# Altium integrated library con-ml.IntLib: 36 symbols
Pins are listed as number, name and electrical type; pins without a type are passive.

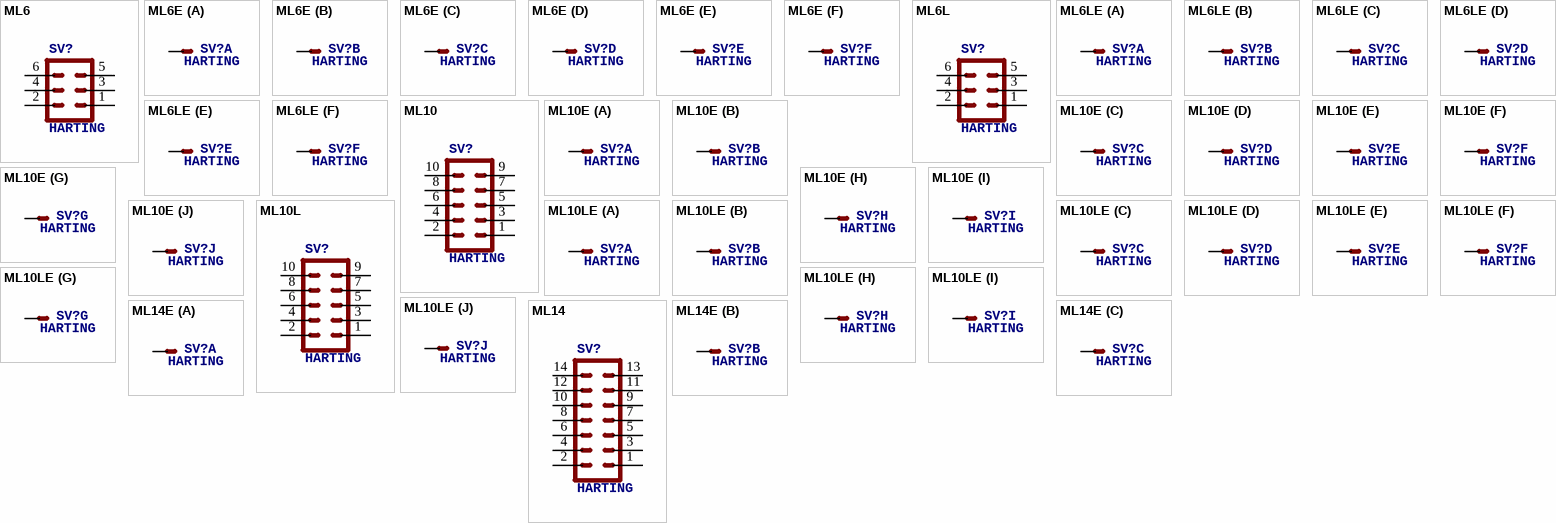
[diagram p0: symbols ML6 to ML14E]

## ML6
designator SV?, comment HARTING
OC_FARNELL: unknown; OC_NEWARK: unknown
footprint ML6
pins: 1, 2, 3, 4, 5, 6

## ML6E
designator SV?, comment HARTING
OC_FARNELL: unknown; OC_NEWARK: unknown
footprint ML6
part A pins: 1 S
part B pins: 2 S
part C pins: 3 S
part D pins: 4 S
part E pins: 5 S
part F pins: 6 S

## ML6L
designator SV?, comment HARTING
OC_FARNELL: unknown; OC_NEWARK: unknown
footprint ML6L
pins: 1, 2, 3, 4, 5, 6

## ML6LE
designator SV?, comment HARTING
OC_FARNELL: unknown; OC_NEWARK: unknown
footprint ML6L
part A pins: 1 S
part B pins: 2 S
part C pins: 3 S
part D pins: 4 S
part E pins: 5 S
part F pins: 6 S

## ML10
designator SV?, comment HARTING
OC_FARNELL: unknown; OC_NEWARK: unknown
footprint ML10
pins: 1, 2, 3, 4, 5, 6, 7, 8, 9, 10

## ML10E
designator SV?, comment HARTING
OC_FARNELL: unknown; OC_NEWARK: unknown
footprint ML10
part A pins: 1 S
part B pins: 2 S
part C pins: 3 S
part D pins: 4 S
part E pins: 5 S
part F pins: 6 S
part G pins: 7 S
part H pins: 8 S
part I pins: 9 S
part J pins: 10 S

## ML10L
designator SV?, comment HARTING
OC_FARNELL: unknown; OC_NEWARK: unknown
footprint ML10L
pins: 1, 2, 3, 4, 5, 6, 7, 8, 9, 10

## ML10LE
designator SV?, comment HARTING
OC_FARNELL: unknown; OC_NEWARK: unknown
footprint ML10L
part A pins: 1 S
part B pins: 2 S
part C pins: 3 S
part D pins: 4 S
part E pins: 5 S
part F pins: 6 S
part G pins: 7 S
part H pins: 8 S
part I pins: 9 S
part J pins: 10 S

## ML14
designator SV?, comment HARTING
OC_FARNELL: unknown; OC_NEWARK: unknown
footprint ML14
pins: 1, 2, 3, 4, 5, 6, 7, 8, 9, 10, 11, 12, 13, 14

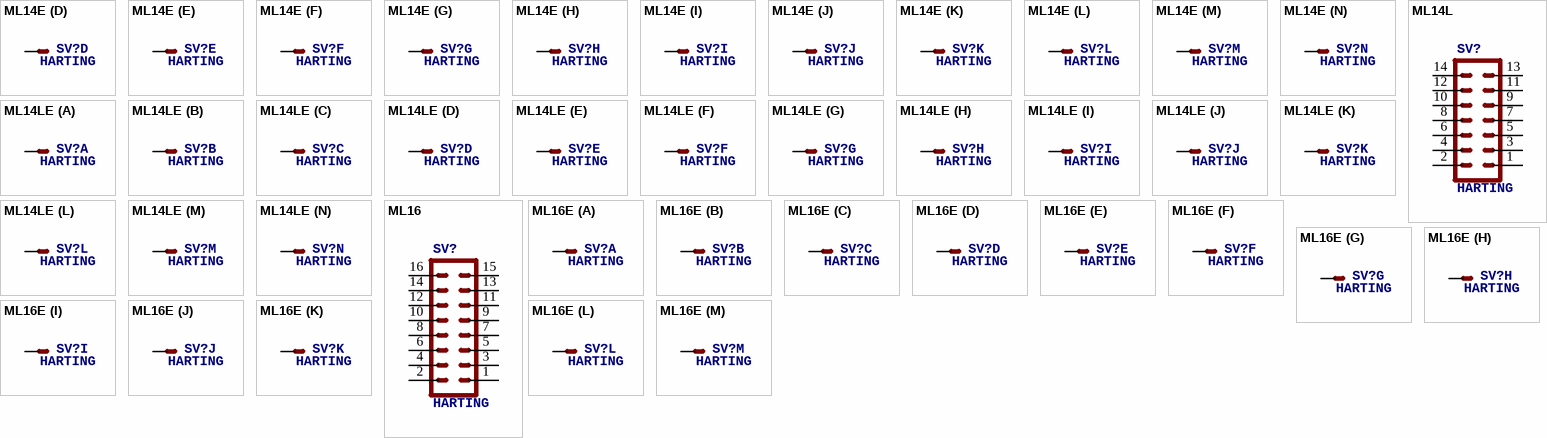
[diagram p1: symbols ML14E to ML16E]

## ML14E
designator SV?, comment HARTING
OC_FARNELL: unknown; OC_NEWARK: unknown
footprint ML14
part A pins: 1 S
part B pins: 2 S
part C pins: 3 S
part D pins: 4 S
part E pins: 5 S
part F pins: 6 S
part G pins: 7 S
part H pins: 8 S
part I pins: 9 S
part J pins: 10 S
part K pins: 11 S
part L pins: 12 S
part M pins: 13 S
part N pins: 14 S

## ML14L
designator SV?, comment HARTING
OC_FARNELL: unknown; OC_NEWARK: unknown
footprint ML14L
pins: 1, 2, 3, 4, 5, 6, 7, 8, 9, 10, 11, 12, 13, 14

## ML14LE
designator SV?, comment HARTING
OC_FARNELL: unknown; OC_NEWARK: unknown
footprint ML14L
part A pins: 1 S
part B pins: 2 S
part C pins: 3 S
part D pins: 4 S
part E pins: 5 S
part F pins: 6 S
part G pins: 7 S
part H pins: 8 S
part I pins: 9 S
part J pins: 10 S
part K pins: 11 S
part L pins: 12 S
part M pins: 13 S
part N pins: 14 S

## ML16
designator SV?, comment HARTING
OC_FARNELL: unknown; OC_NEWARK: unknown
footprint ML16
pins: 1, 2, 3, 4, 5, 6, 7, 8, 9, 10, 11, 12, 13, 14, 15, 16

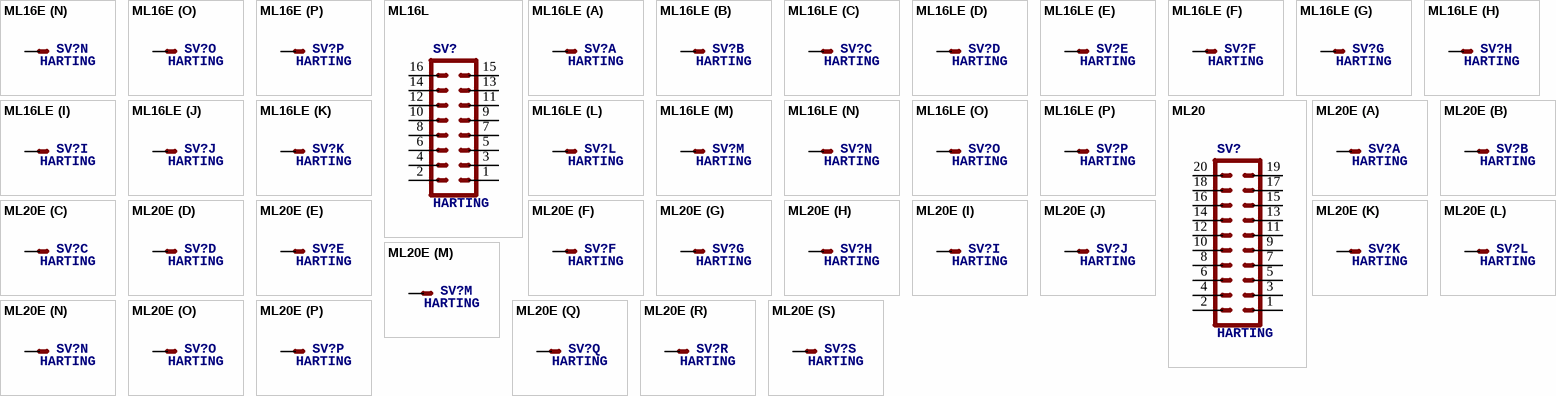
[diagram p2: symbols ML16E to ML20E]

## ML16E
designator SV?, comment HARTING
OC_FARNELL: unknown; OC_NEWARK: unknown
footprint ML16
part A pins: 1 S
part B pins: 2 S
part C pins: 3 S
part D pins: 4 S
part E pins: 5 S
part F pins: 6 S
part G pins: 7 S
part H pins: 8 S
part I pins: 9 S
part J pins: 10 S
part K pins: 11 S
part L pins: 12 S
part M pins: 13 S
part N pins: 14 S
part O pins: 15 S
part P pins: 16 S

## ML16L
designator SV?, comment HARTING
OC_FARNELL: unknown; OC_NEWARK: unknown
footprint ML16L
pins: 1, 2, 3, 4, 5, 6, 7, 8, 9, 10, 11, 12, 13, 14, 15, 16

## ML16LE
designator SV?, comment HARTING
OC_FARNELL: unknown; OC_NEWARK: unknown
footprint ML16L
part A pins: 1 S
part B pins: 2 S
part C pins: 3 S
part D pins: 4 S
part E pins: 5 S
part F pins: 6 S
part G pins: 7 S
part H pins: 8 S
part I pins: 9 S
part J pins: 10 S
part K pins: 11 S
part L pins: 12 S
part M pins: 13 S
part N pins: 14 S
part O pins: 15 S
part P pins: 16 S

## ML20
designator SV?, comment HARTING
OC_FARNELL: unknown; OC_NEWARK: unknown
footprint ML20
pins: 1, 2, 3, 4, 5, 6, 7, 8, 9, 10, 11, 12, 13, 14, 15, 16, 17, 18, 19, 20

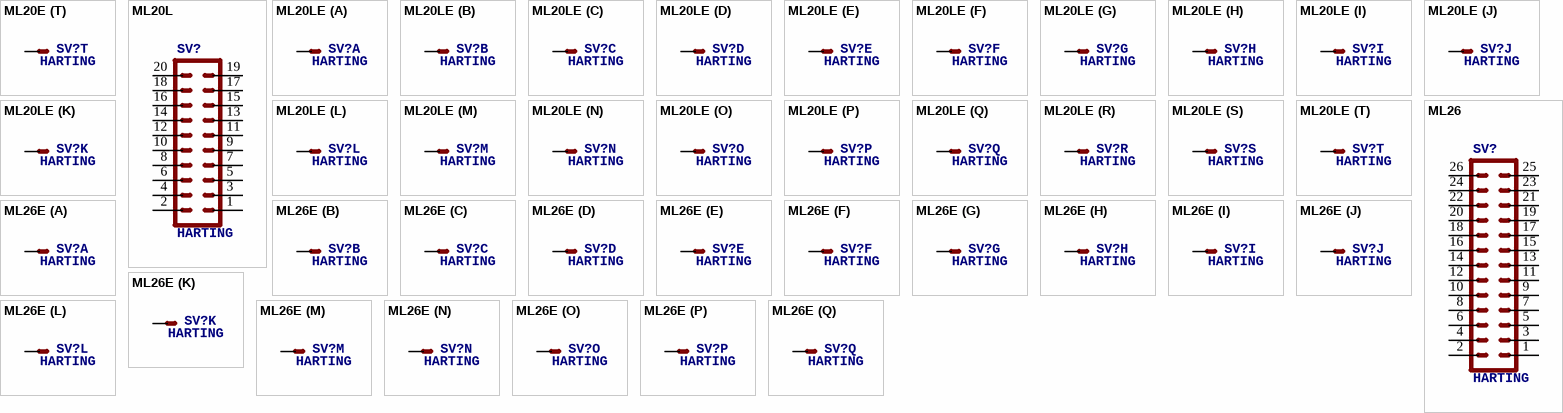
[diagram p3: symbols ML20E to ML26E]

## ML20E
designator SV?, comment HARTING
OC_FARNELL: unknown; OC_NEWARK: unknown
footprint ML20
part A pins: 1 S
part B pins: 2 S
part C pins: 3 S
part D pins: 4 S
part E pins: 5 S
part F pins: 6 S
part G pins: 7 S
part H pins: 8 S
part I pins: 9 S
part J pins: 10 S
part K pins: 11 S
part L pins: 12 S
part M pins: 13 S
part N pins: 14 S
part O pins: 15 S
part P pins: 16 S
part Q pins: 17 S
part R pins: 18 S
part S pins: 19 S
part T pins: 20 S

## ML20L
designator SV?, comment HARTING
OC_FARNELL: unknown; OC_NEWARK: unknown
footprint ML20L
pins: 1, 2, 3, 4, 5, 6, 7, 8, 9, 10, 11, 12, 13, 14, 15, 16, 17, 18, 19, 20

## ML20LE
designator SV?, comment HARTING
OC_FARNELL: unknown; OC_NEWARK: unknown
footprint ML20L
part A pins: 1 S
part B pins: 2 S
part C pins: 3 S
part D pins: 4 S
part E pins: 5 S
part F pins: 6 S
part G pins: 7 S
part H pins: 8 S
part I pins: 9 S
part J pins: 10 S
part K pins: 11 S
part L pins: 12 S
part M pins: 13 S
part N pins: 14 S
part O pins: 15 S
part P pins: 16 S
part Q pins: 17 S
part R pins: 18 S
part S pins: 19 S
part T pins: 20 S

## ML26
designator SV?, comment HARTING
OC_FARNELL: unknown; OC_NEWARK: unknown
footprint ML26
pins: 1, 2, 3, 4, 5, 6, 7, 8, 9, 10, 11, 12, 13, 14, 15, 16, 17, 18, 19, 20, 21, 22, 23, 24, 25, 26

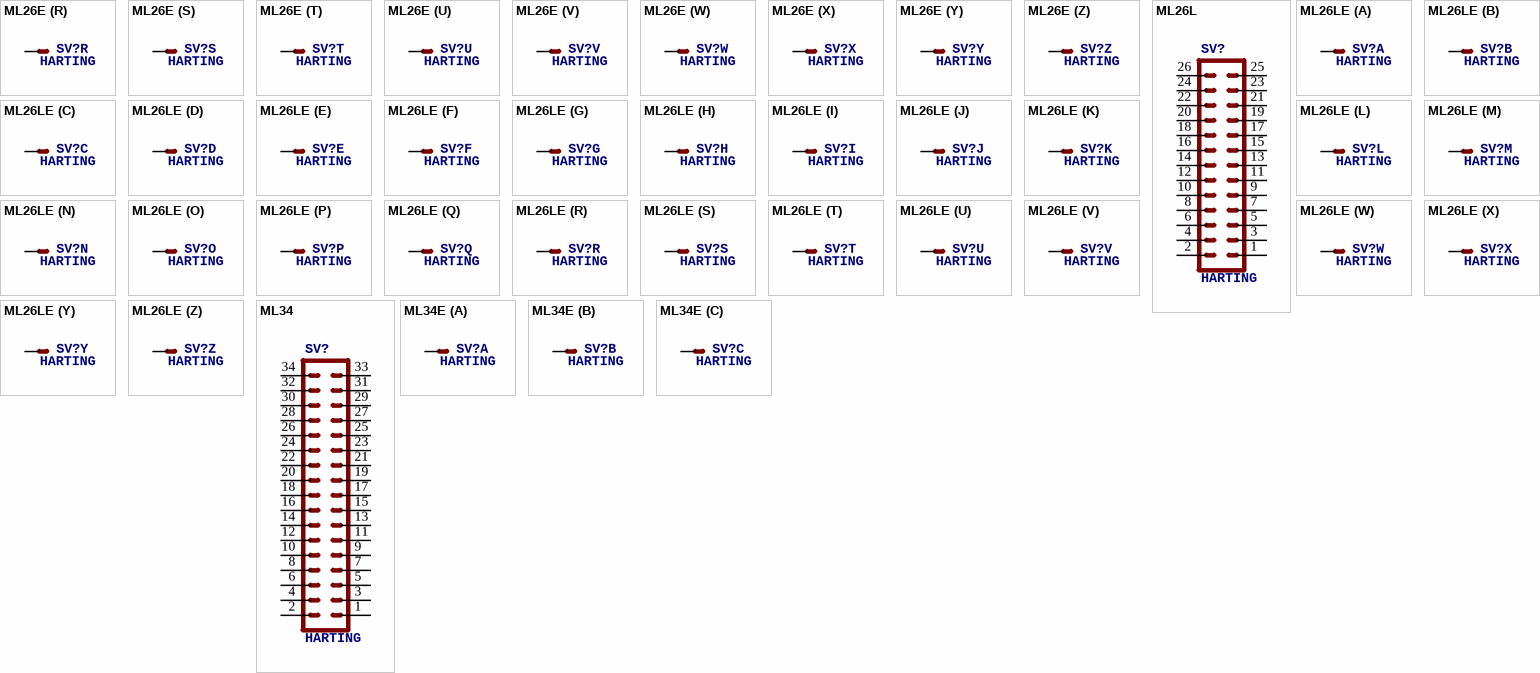
[diagram p4: symbols ML26E to ML34E]

## ML26E
designator SV?, comment HARTING
OC_FARNELL: unknown; OC_NEWARK: unknown
footprint ML26
part A pins: 1 S
part B pins: 2 S
part C pins: 3 S
part D pins: 4 S
part E pins: 5 S
part F pins: 6 S
part G pins: 7 S
part H pins: 8 S
part I pins: 9 S
part J pins: 10 S
part K pins: 11 S
part L pins: 12 S
part M pins: 13 S
part N pins: 14 S
part O pins: 15 S
part P pins: 16 S
part Q pins: 17 S
part R pins: 18 S
part S pins: 19 S
part T pins: 20 S
part U pins: 21 S
part V pins: 22 S
part W pins: 23 S
part X pins: 24 S
part Y pins: 25 S
part Z pins: 26 S

## ML26L
designator SV?, comment HARTING
OC_FARNELL: unknown; OC_NEWARK: unknown
footprint ML26L
pins: 1, 2, 3, 4, 5, 6, 7, 8, 9, 10, 11, 12, 13, 14, 15, 16, 17, 18, 19, 20, 21, 22, 23, 24, 25, 26

## ML26LE
designator SV?, comment HARTING
OC_FARNELL: unknown; OC_NEWARK: unknown
footprint ML26L
part A pins: 1 S
part B pins: 2 S
part C pins: 3 S
part D pins: 4 S
part E pins: 5 S
part F pins: 6 S
part G pins: 7 S
part H pins: 8 S
part I pins: 9 S
part J pins: 10 S
part K pins: 11 S
part L pins: 12 S
part M pins: 13 S
part N pins: 14 S
part O pins: 15 S
part P pins: 16 S
part Q pins: 17 S
part R pins: 18 S
part S pins: 19 S
part T pins: 20 S
part U pins: 21 S
part V pins: 22 S
part W pins: 23 S
part X pins: 24 S
part Y pins: 25 S
part Z pins: 26 S

## ML34
designator SV?, comment HARTING
OC_FARNELL: unknown; OC_NEWARK: unknown
footprint ML34
pins: 1, 2, 3, 4, 5, 6, 7, 8, 9, 10, 11, 12, 13, 14, 15, 16, 17, 18, 19, 20, 21, 22, 23, 24, 25, 26, 27, 28, 29, 30, 31, 32, 33, 34

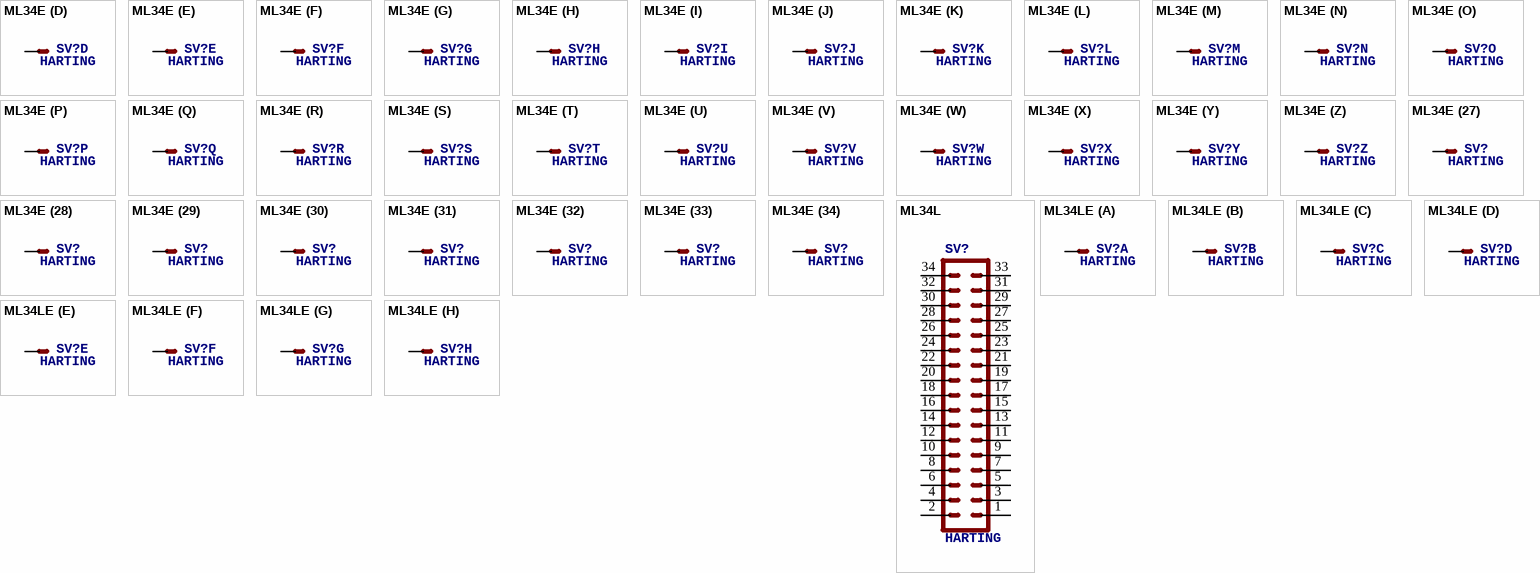
[diagram p5: symbols ML34E to ML34LE]

## ML34E
designator SV?, comment HARTING
OC_FARNELL: unknown; OC_NEWARK: unknown
footprint ML34
part A pins: 1 S
part B pins: 2 S
part C pins: 3 S
part D pins: 4 S
part E pins: 5 S
part F pins: 6 S
part G pins: 7 S
part H pins: 8 S
part I pins: 9 S
part J pins: 10 S
part K pins: 11 S
part L pins: 12 S
part M pins: 13 S
part N pins: 14 S
part O pins: 15 S
part P pins: 16 S
part Q pins: 17 S
part R pins: 18 S
part S pins: 19 S
part T pins: 20 S
part U pins: 21 S
part V pins: 22 S
part W pins: 23 S
part X pins: 24 S
part Y pins: 25 S
part Z pins: 26 S
part 27 pins: 27 S
part 28 pins: 28 S
part 29 pins: 29 S
part 30 pins: 30 S
part 31 pins: 31 S
part 32 pins: 32 S
part 33 pins: 33 S
part 34 pins: 34 S

## ML34L
designator SV?, comment HARTING
OC_FARNELL: unknown; OC_NEWARK: unknown
footprint ML34L
pins: 1, 2, 3, 4, 5, 6, 7, 8, 9, 10, 11, 12, 13, 14, 15, 16, 17, 18, 19, 20, 21, 22, 23, 24, 25, 26, 27, 28, 29, 30, 31, 32, 33, 34

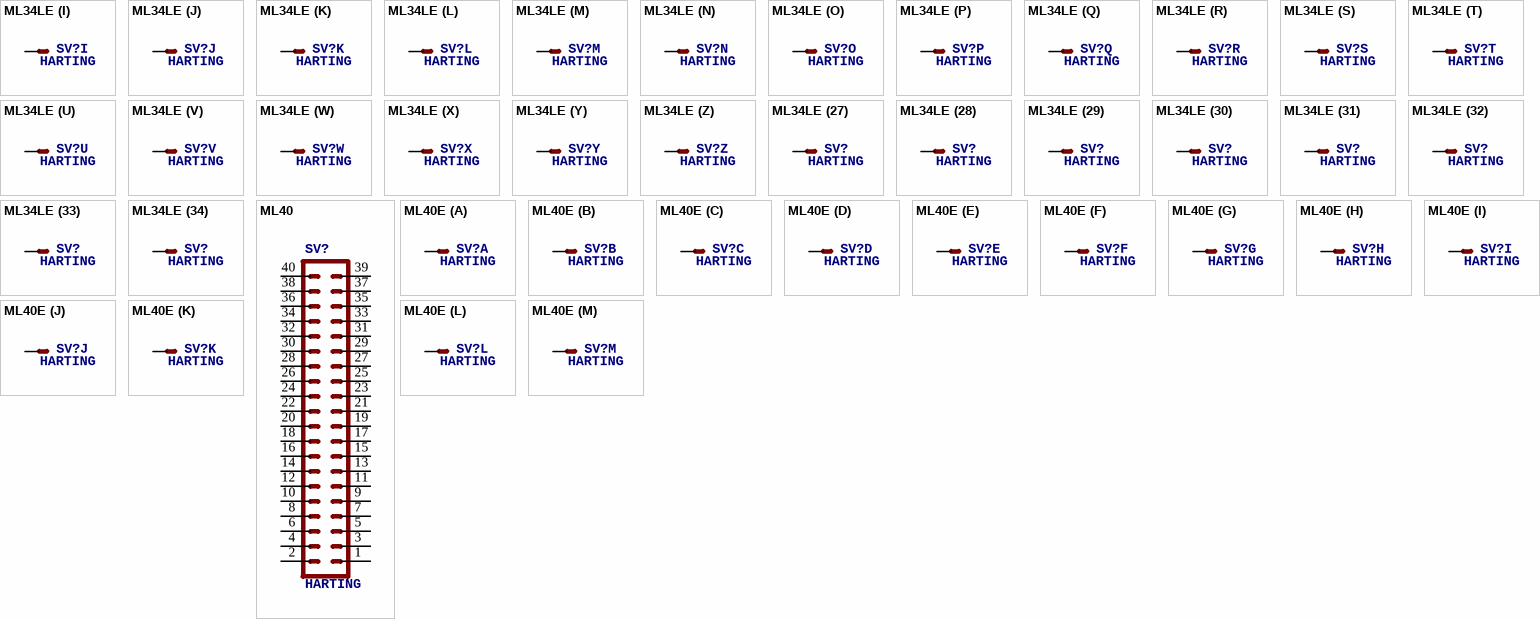
[diagram p6: symbols ML34LE to ML40E]

## ML34LE
designator SV?, comment HARTING
OC_FARNELL: unknown; OC_NEWARK: unknown
footprint ML34L
part A pins: 1 S
part B pins: 2 S
part C pins: 3 S
part D pins: 4 S
part E pins: 5 S
part F pins: 6 S
part G pins: 7 S
part H pins: 8 S
part I pins: 9 S
part J pins: 10 S
part K pins: 11 S
part L pins: 12 S
part M pins: 13 S
part N pins: 14 S
part O pins: 15 S
part P pins: 16 S
part Q pins: 17 S
part R pins: 18 S
part S pins: 19 S
part T pins: 20 S
part U pins: 21 S
part V pins: 22 S
part W pins: 23 S
part X pins: 24 S
part Y pins: 25 S
part Z pins: 26 S
part 27 pins: 27 S
part 28 pins: 28 S
part 29 pins: 29 S
part 30 pins: 30 S
part 31 pins: 31 S
part 32 pins: 32 S
part 33 pins: 33 S
part 34 pins: 34 S

## ML40
designator SV?, comment HARTING
OC_FARNELL: unknown; OC_NEWARK: unknown
footprint ML40
pins: 1, 2, 3, 4, 5, 6, 7, 8, 9, 10, 11, 12, 13, 14, 15, 16, 17, 18, 19, 20, 21, 22, 23, 24, 25, 26, 27, 28, 29, 30, 31, 32, 33, 34, 35, 36, 37, 38, 39, 40

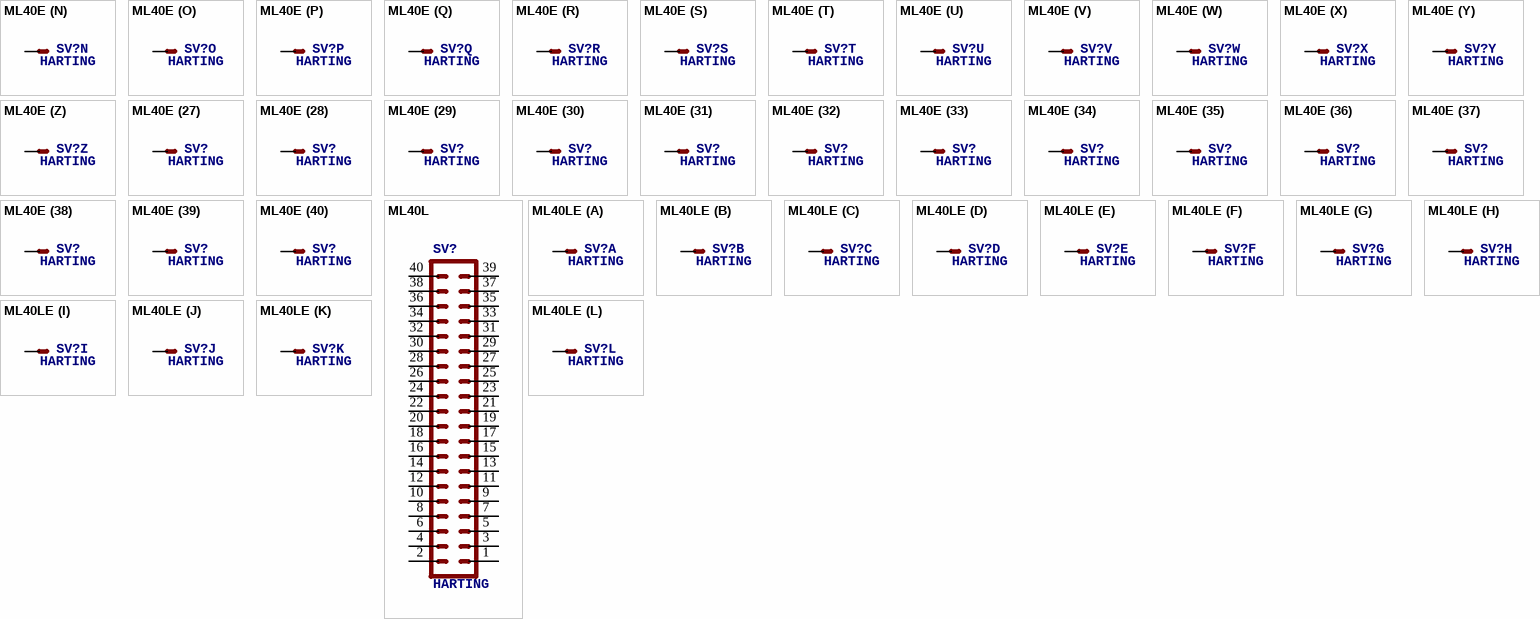
[diagram p7: symbols ML40E to ML40LE]

## ML40E
designator SV?, comment HARTING
OC_FARNELL: unknown; OC_NEWARK: unknown
footprint ML40
part A pins: 1 S
part B pins: 2 S
part C pins: 3 S
part D pins: 4 S
part E pins: 5 S
part F pins: 6 S
part G pins: 7 S
part H pins: 8 S
part I pins: 9 S
part J pins: 10 S
part K pins: 11 S
part L pins: 12 S
part M pins: 13 S
part N pins: 14 S
part O pins: 15 S
part P pins: 16 S
part Q pins: 17 S
part R pins: 18 S
part S pins: 19 S
part T pins: 20 S
part U pins: 21 S
part V pins: 22 S
part W pins: 23 S
part X pins: 24 S
part Y pins: 25 S
part Z pins: 26 S
part 27 pins: 27 S
part 28 pins: 28 S
part 29 pins: 29 S
part 30 pins: 30 S
part 31 pins: 31 S
part 32 pins: 32 S
part 33 pins: 33 S
part 34 pins: 34 S
part 35 pins: 35 S
part 36 pins: 36 S
part 37 pins: 37 S
part 38 pins: 38 S
part 39 pins: 39 S
part 40 pins: 40 S

## ML40L
designator SV?, comment HARTING
OC_FARNELL: unknown; OC_NEWARK: unknown
footprint ML40L
pins: 1, 2, 3, 4, 5, 6, 7, 8, 9, 10, 11, 12, 13, 14, 15, 16, 17, 18, 19, 20, 21, 22, 23, 24, 25, 26, 27, 28, 29, 30, 31, 32, 33, 34, 35, 36, 37, 38, 39, 40

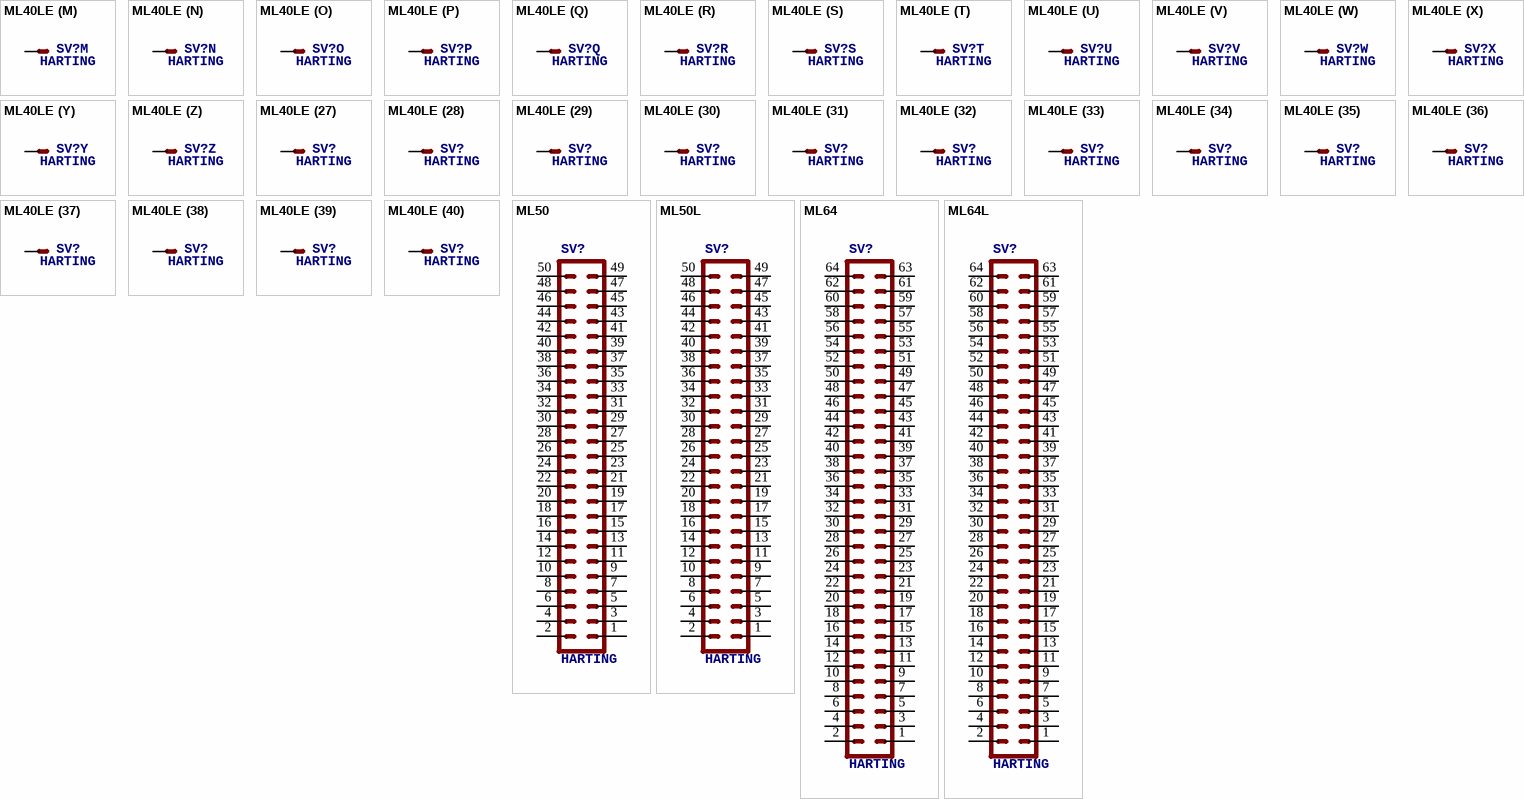
[diagram p8: symbols ML40LE to ML64L]

## ML40LE
designator SV?, comment HARTING
OC_FARNELL: unknown; OC_NEWARK: unknown
footprint ML40L
part A pins: 1 S
part B pins: 2 S
part C pins: 3 S
part D pins: 4 S
part E pins: 5 S
part F pins: 6 S
part G pins: 7 S
part H pins: 8 S
part I pins: 9 S
part J pins: 10 S
part K pins: 11 S
part L pins: 12 S
part M pins: 13 S
part N pins: 14 S
part O pins: 15 S
part P pins: 16 S
part Q pins: 17 S
part R pins: 18 S
part S pins: 19 S
part T pins: 20 S
part U pins: 21 S
part V pins: 22 S
part W pins: 23 S
part X pins: 24 S
part Y pins: 25 S
part Z pins: 26 S
part 27 pins: 27 S
part 28 pins: 28 S
part 29 pins: 29 S
part 30 pins: 30 S
part 31 pins: 31 S
part 32 pins: 32 S
part 33 pins: 33 S
part 34 pins: 34 S
part 35 pins: 35 S
part 36 pins: 36 S
part 37 pins: 37 S
part 38 pins: 38 S
part 39 pins: 39 S
part 40 pins: 40 S

## ML50
designator SV?, comment HARTING
OC_FARNELL: unknown; OC_NEWARK: unknown
footprint ML50
pins: 1, 2, 3, 4, 5, 6, 7, 8, 9, 10, 11, 12, 13, 14, 15, 16, 17, 18, 19, 20, 21, 22, 23, 24, 25, 26, 27, 28, 29, 30, 31, 32, 33, 34, 35, 36, 37, 38, 39, 40, 41, 42, 43, 44, 45, 46, 47, 48, 49, 50

## ML50L
designator SV?, comment HARTING
OC_FARNELL: unknown; OC_NEWARK: unknown
footprint ML50L
pins: 1, 2, 3, 4, 5, 6, 7, 8, 9, 10, 11, 12, 13, 14, 15, 16, 17, 18, 19, 20, 21, 22, 23, 24, 25, 26, 27, 28, 29, 30, 31, 32, 33, 34, 35, 36, 37, 38, 39, 40, 41, 42, 43, 44, 45, 46, 47, 48, 49, 50

## ML64
designator SV?, comment HARTING
OC_FARNELL: unknown; OC_NEWARK: unknown
footprint ML64
pins: 1, 2, 3, 4, 5, 6, 7, 8, 9, 10, 11, 12, 13, 14, 15, 16, 17, 18, 19, 20, 21, 22, 23, 24, 25, 26, 27, 28, 29, 30, 31, 32, 33, 34, 35, 36, 37, 38, 39, 40, 41, 42, 43, 44, 45, 46, 47, 48, 49, 50, 51, 52, 53, 54, 55, 56, 57, 58, 59, 60, 61, 62, 63, 64

## ML64L
designator SV?, comment HARTING
OC_FARNELL: unknown; OC_NEWARK: unknown
footprint ML64L
pins: 1, 2, 3, 4, 5, 6, 7, 8, 9, 10, 11, 12, 13, 14, 15, 16, 17, 18, 19, 20, 21, 22, 23, 24, 25, 26, 27, 28, 29, 30, 31, 32, 33, 34, 35, 36, 37, 38, 39, 40, 41, 42, 43, 44, 45, 46, 47, 48, 49, 50, 51, 52, 53, 54, 55, 56, 57, 58, 59, 60, 61, 62, 63, 64